# EAGLE library part EPIC-PROG-EDGE (library umich)
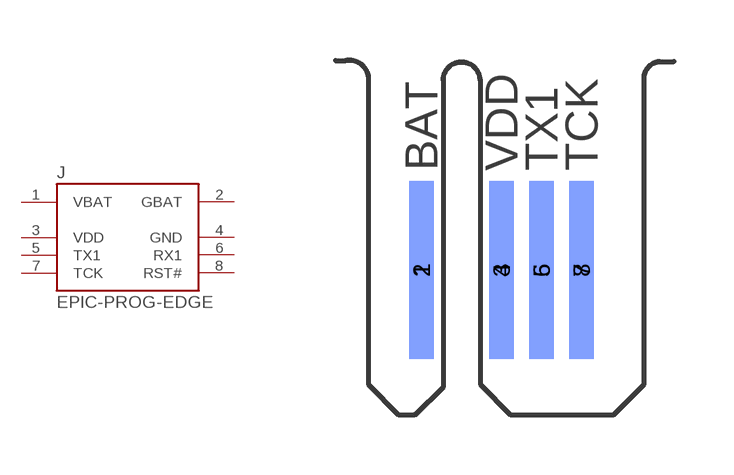
[diagram p1: symbol with the pads of EPIC-PROG-EDGE; footprint EPIC-PROG-EDGE]

Designator prefix J

## EPIC-PROG-EDGE  [EPIC-PROG-EDGE]
1  VBAT
2  GBAT
3  VDD
4  GND
5  TX1
6  RX1
7  TCK
8  RST#

## Footprint EPIC-PROG-EDGE (pad centres in mm)
smd 0.61 x 4.445: 1 -1.001,3.619; 3 1.001,3.619; 5 2.002,3.619; 7 3.002,3.619
smd 0.61 x 4.445 bottom: 2 -1.001,3.619; 4 1.001,3.619; 6 2.002,3.619; 8 3.002,3.619